# Altium footprint library TN4015H-6I.PcbLib: 1 footprints
Each footprint in its own frame and in the unit in brackets; x right, y up, seen from the top. Pads: shape width x height; smd on the part's side, far side on the other; paste and mask are expansions set on the pad; w line width, h text height; cw(c..) or ccw(c..) is an arc to the next point about the centre after c.
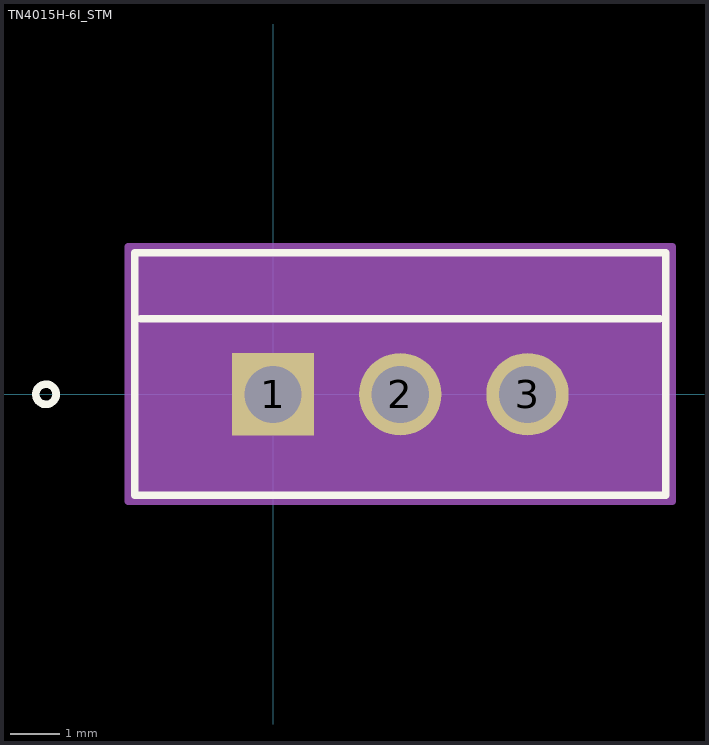
[diagram p0: the footprint, top view; thin cyan lines are the x and y axes]

## TN4015H-6I_STM [mil]
pads (3):
  rect 65x65 hole 45 paste-32.5 mask+0: 1(0,0)
  round 65 hole 45 paste-32.5 mask+0: 2(100.39,0) 3(200.79,0)
Top Overlay:
  circle w6: c-179.11,0 r8
  lines w6: -104.11,59.5 304.89,59.5 ; -109.11,-79.5 309.89,-79.5 309.89,111.5 -109.11,111.5 -109.11,-79.5
  text ".Designator" at -37.11,-9 h50
Mechanical 13:
  circle w1: c-94.11,-64.5 r8
  lines w1: -104.11,54.5 304.89,54.5 ; -104.11,-74.5 304.89,-74.5 304.89,106.5 -104.11,106.5 -104.11,-74.5
  text ".Designator" at -37.11,-9 h50
  text "TAB" at 81.64,68 h25
Mechanical 15:
  region: 314.89,116.5 -114.11,116.5 -114.11,-84.5 314.89,-84.5
  lines w6: -114.11,-84.5 -114.11,116.5 314.89,116.5 314.89,-84.5 -114.11,-84.5
3D body "TN4015H-6I_STM.step": height 774.02, standoff -247.99, extent -104.09,-74.49 304.88,106.5